# Altium schematic symbol library ECG.SCHLIB: 12 symbols
Pins are listed as number, name and electrical type; pins without a type are passive.

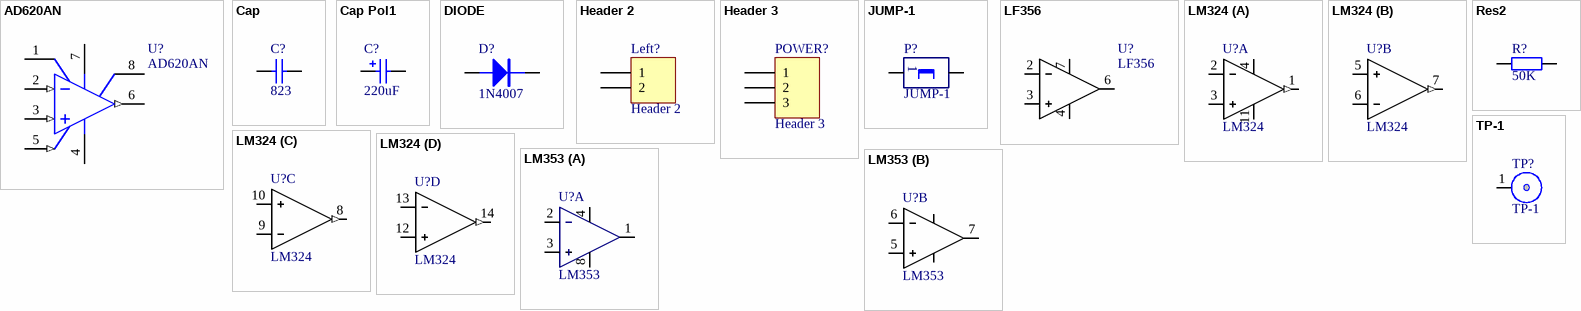
[diagram p0: symbols AD620AN to TP-1]

## AD620AN
designator U?
Low-Cost, Low-Power Instrumentation Amplifier; Published: 8-Jun-2000; LatestRevisionDate: 04-Mar-2005; LatestRevisionNote: Stylized 3D Model Added.; DatasheetVersion: REV.D 1998; PackageVersion: revA; PackageReference: N-8; Publisher: Altium Limited; PackageDescription: DIP; 8 Leads; Row Spacing 7.62 mm; Pitch 2.54 mm; ComponentLink1Description: Manufacturer Link; ComponentLink1URL: http://www.analog.com/en/prod/0%2C2877%2CAD620%2C00.html; ComponentLink2Description: Datasheet; ComponentLink2URL: http://www.analog.com/UploadedFiles/Data_Sheets/897653854AD620_g.pdf
footprint DIP8 (DIP; 8 Leads; Row Spacing 7.62 mm; Pitch 2.54 mm)
3D model N8 (DIP; 8 Leads; Row Spacing 7.62 mm; Pitch 2.54 mm)
simulation model AD620A (SUBCKT)
pins: 1 RG, 2 -IN (in), 3 +IN (in), 4 V- (power), 5 REF (in), 6 OUT (out), 7 V+ (power), 8 RG

## Cap
designator C?, comment 823
Capacitor; Value: 4700pF; Published: 8-Jun-2000; LatestRevisionDate: 17-Jul-2002; LatestRevisionNote: Re-released for DXP Platform.; PackageReference: RAD-0.3; Publisher: Altium Limited; PackageDescription: Radial Cap, Thru-Hole; 2 Leads; 0.3 in Pin Spacing
footprint RAD-0.3 (Radial Cap, Thru-Hole; 2 Leads; 0.3 in Pin Spacing)
simulation model CAP (Capacitor)
signal-integrity model Cap
footprint RAD-0.2
footprint C2
footprint C1
pins: 1, 2

## Cap Pol1
designator C?, comment 220uF
Polarized Capacitor (Radial); Published: 8-Jun-2000; LatestRevisionDate: 17-Jul-2002; LatestRevisionNote: Re-released for DXP Platform.; PackageReference: RB7.6-15; Publisher: Altium Limited; PackageDescription: Polarized Capacitor (Radial); 2 Leads; Value: 220uF
footprint RB.1/.2
simulation model CAP (Capacitor)
signal-integrity model Cap Pol
footprint RB.15/.3
pins: 1, 2
1 alternate drawing of the same symbol

## DIODE
designator D?, comment 1N4007
footprint 3528-D
footprint 3516-D
footprint 2215
footprint DIODE0.4
pins: 1, 2

## Header 2
designator Left?
Header, 2-Pin; LatestRevisionDate: 17-Jul-2002; LatestRevisionNote: Re-released for DXP Platform.; Publisher: Altium Limited
footprint SIP2
signal-integrity model Connector
footprint SIP2L
pins: 1, 2

## Header 3
designator POWER?
Header, 3-Pin; LatestRevisionDate: 17-Jul-2002; LatestRevisionNote: Re-released for DXP Platform.; Publisher: Altium Limited
footprint POWER3
signal-integrity model Connector
pins: 1, 2, 3

## JUMP-1
designator P?
footprint SIP2
pins: 1, 2

## LF356
designator U?
footprint DIP8 (DIP; 8 Leads; Row Spacing 7.62 mm; Pitch 2.54 mm)
pins: 2, 3, 4, 6, 7

## LM324
designator U?
footprint DIP14 (DIP, 14-Leads, Row Spacing 7.62mm, Pitch 2.54mm, Body 19.31x6.35mm)
part A pins: 1 (out), 2, 3, 4, 11
part B pins: 5, 6, 7 (out)
part C pins: 8 (out), 9, 10
part D pins: 12, 13, 14 (out)

## LM353
designator U?
footprint SOIC8W_M (8-Pin Small Outline Package 1.27 mm Pitch, IPC Low Density)
footprint DIP8
part A pins: 1, 2, 3, 4, 8
part B pins: 5, 6, 7

## Res2
designator R?, comment 50K
Resistor; Published: 8-Jun-2000; LatestRevisionDate: 17-Jul-2002; LatestRevisionNote: Re-released for DXP Platform.; PackageReference: AXIAL-0.4; Publisher: Altium Limited; PackageDescription: Axial Device, Thru-Hole; 2 Leads; 0.4 in Pin Spacing; Value: 50K
footprint AXIAL-0.3 (Axial Device, Thru-Hole; 2 Leads; 0.3 in Pin Spacing)
simulation model RESISTOR (Resistor)
signal-integrity model Res
pins: 1, 2

## TP-1
designator TP?
footprint TP-1
footprint tp-1-1
pins: 1